# Altium footprint library WePcbLib.PcbLib: 177 footprints (part 3 of 12)
Each footprint in its own frame and in the unit in brackets; x right, y up, seen from the top. Pads: shape width x height; smd on the part's side, far side on the other; paste and mask are expansions set on the pad; w line width, h text height; cw(c..) or ccw(c..) is an arc to the next point about the centre after c.
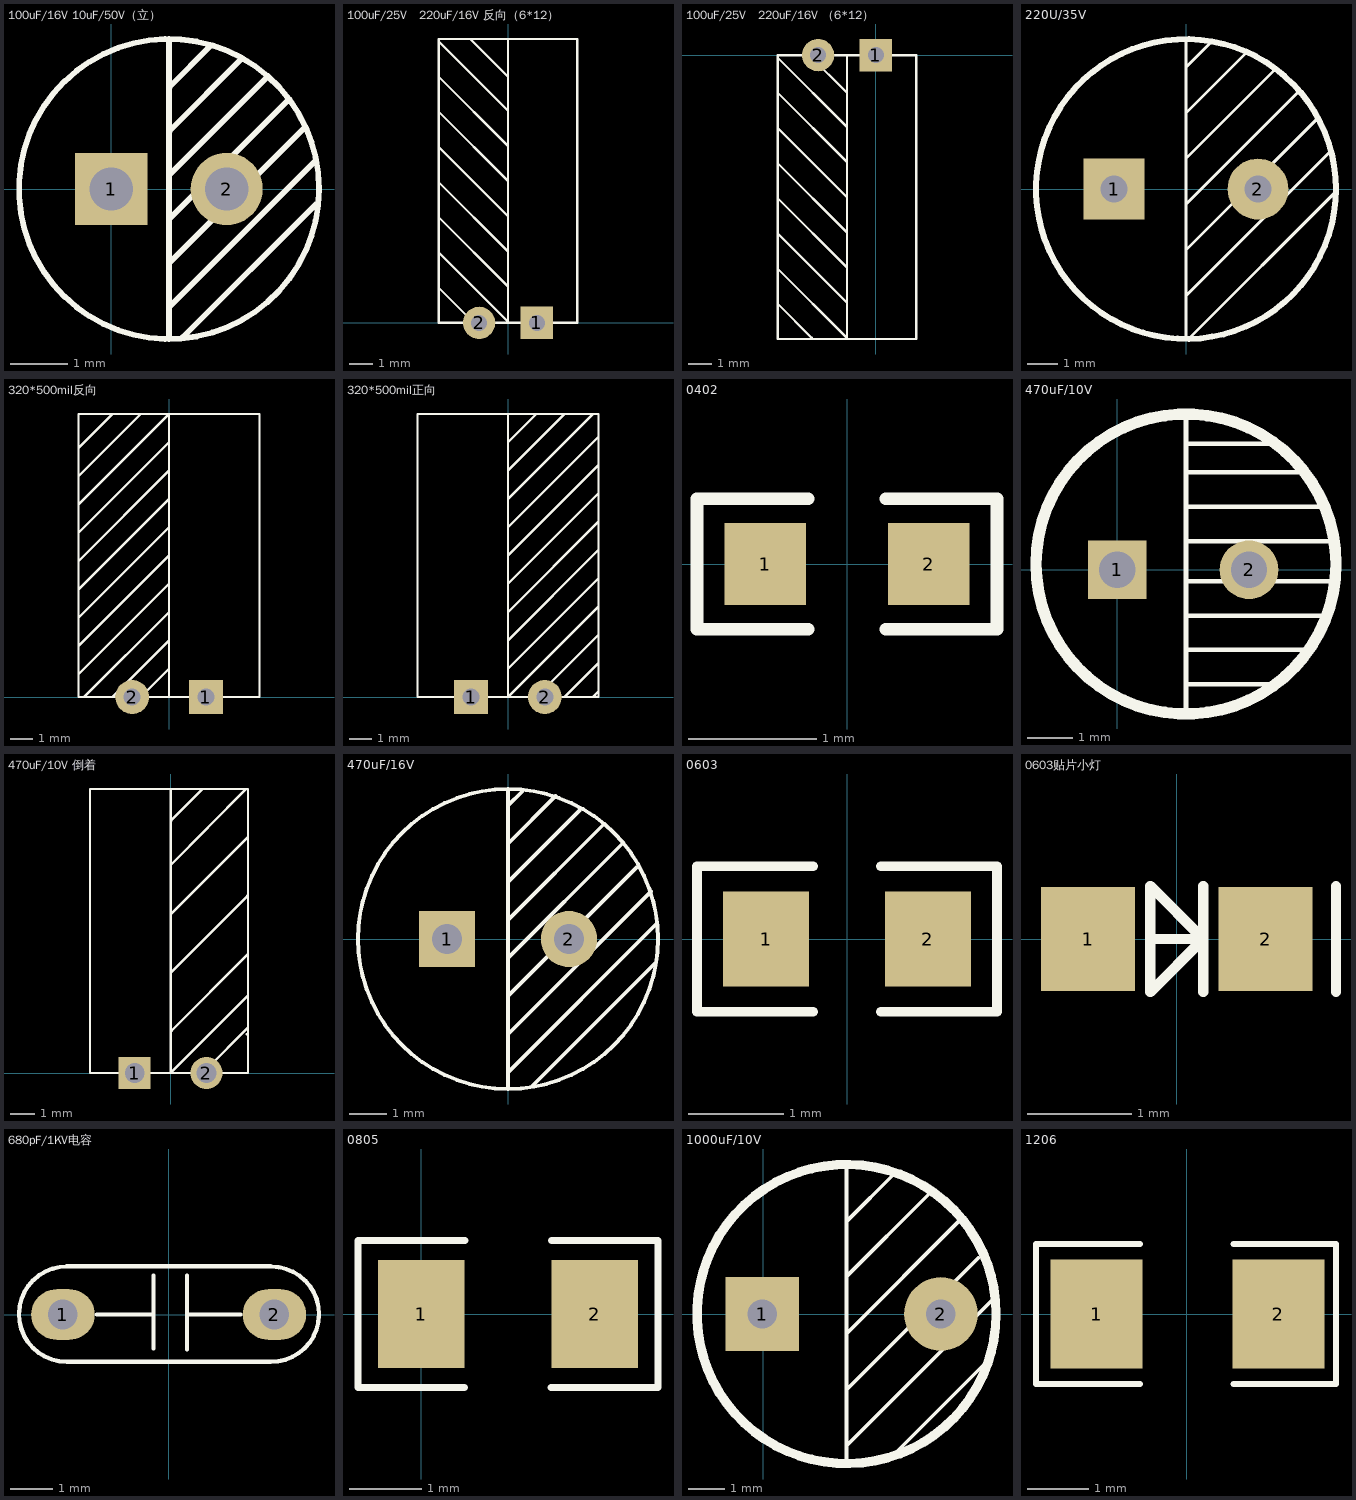
[diagram p2: the footprints below, top view; thin cyan lines are the x and y axes]

## 100uF/16V 10uF/50V（立） [mm]
pads (2):
  rect 1.25x1.25 hole 0.75: 1(0,0)
  round 1.25 hole 0.75: 2(2,0)
Top Overlay:
  circle w0.1: c1,0 r2.6
  lines w0.1: 1,-2.6 1,2.6 ; 1.016,-2.032 3.531,0.483 ; 1.016,-1.27 3.327,1.041 ; 1.016,-0.508 3.048,1.524 ; 1.016,0.254 2.667,1.905 ; 1.016,1.016 2.261,2.261 ; 1.016,1.778 1.714,2.476 ; 1.245,-2.565 3.556,-0.254

## 100uF/25V   220uF/16V 反向（6*12） [mm]
height 4.6
pads (2):
  rect 1.4x1.4 hole 0.7: 1(1.25,0)
  round 1.4 hole 0.7: 2(-1.25,0)
Top Overlay:
  lines w0.1: -3,1.524 -1.524,0.048 -1.524,0 ; -3,3.048 0,0.048 0,0 0,12.3 ; -3,4.572 0,1.572 0,1.524 ; -3,6.096 0,3.096 0,3.048 0,3 ; -3,7.62 0,4.62 0,4.572 0,4.524 ; -3,9.144 0,6.144 0,6.096 0,6.048 ; -3,10.668 0,7.668 0,7.62 0,7.572 ; -3,12.192 0,9.192 0,9.144 0,9.096 ; -1.632,12.3 0,10.668 ; -0.025,12.3 0.022,12.3 ; 1.245,12.3 1.266,12.3 ; 1.295,12.3 1.416,12.3 ; 1.524,0 3,0 ; 3,6.096 3,6.169 ; 0,10.668 0,10.645 0,10.668 ; 3,0 3,12.3 -3,12.3 -3,0 3,0 ; 3,10.668 3,10.716 3,10.668

## 100uF/25V   220uF/16V （6*12） [mm]
pads (2):
  rect 1.4x1.4 hole 0.7: 1(0,0)
  round 1.4 hole 0.7: 2(-2.5,0)
Top Overlay:
  lines w0.1: -4.25,-10.776 -2.774,-12.252 -2.774,-12.3 ; -4.25,-9.252 -1.25,-12.252 -1.25,-12.3 -1.25,0 ; -4.25,-7.728 -1.25,-10.728 -1.25,-10.776 ; -4.25,-6.204 -1.25,-9.204 -1.25,-9.252 -1.25,-9.3 ; -4.25,-4.68 -1.25,-7.68 -1.25,-7.728 -1.25,-7.776 ; -4.25,-3.156 -1.25,-6.156 -1.25,-6.204 -1.25,-6.252 ; -4.25,-1.632 -1.25,-4.632 -1.25,-4.68 -1.25,-4.728 ; -4.25,-0.108 -1.25,-3.108 -1.25,-3.156 -1.25,-3.204 ; -2.882,0 -1.25,-1.632 ; -1.275,0 -1.228,0 ; -0.005,0 0.016,0 ; 0.045,0 0.166,0 ; 0.274,-12.3 1.75,-12.3 ; 1.75,-6.204 1.75,-6.131 ; -1.25,-1.632 -1.25,-1.655 -1.25,-1.632 ; 1.75,-12.3 -4.25,-12.3 -4.25,0 1.75,0 1.75,-12.3 ; 1.75,-1.632 1.75,-1.584 1.75,-1.632

## 220U/35V [mil]
height 181.1
pads (2):
  rect 80x80 hole 35: 1(-94.49,0)
  round 80 hole 35: 2(94.49,0)
Top Overlay:
  circle w7.87: c0,0 r196.85
  lines w3.94: 0,-194.3 0,197 ; 0,-140 190,50 ; 0,-80 171,91 ; 0,-20 147.5,127.5 ; 0,40 117.5,157.5 ; 0,100 80,180 ; 0,160 34,194 ; 4.5,-195.5 194,-6

## 320*500mil反向 [mil] "1000uF*10V/470uF*10V/220uF*25V/220uF*35V"
pads (2):
  rect 60x60 hole 30: 1(65,0)
  round 60 hole 30: 2(-65,0)
Top Overlay:
  lines w3.94: -160,40 0,200 ; -160,90 0,250 ; -160,140 0,300 ; -160,190 0,350 ; -160,240 0,400 ; -160,290 0,450 ; -160,340 0,500 0,0 ; -160,390 -50,500 ; -160,440 -100,500 -110,500 ; -150,0 0,150 ; -100,0 0,100 ; -50,0 0,50 ; -160,0 160,0 160,500 -160,500 -160,0

## 320*500mil正向 [mil] "1000uF*10V/470uF*10V/220uF*25V/220uF*35V"
pads (2):
  rect 60x60 hole 30: 1(-65,0)
  round 60 hole 30: 2(65,0)
Top Overlay:
  lines w3.94: 0,50 160,210 ; 0,100 160,260 ; 0,150 160,310 ; 0,200 160,360 ; 0,250 160,410 ; 0,300 160,460 ; 0,350 150,500 ; 0,400 100,500 ; 0,450 50,500 ; 0,500 0,0 160,160 ; 45,0 50,0 160,110 ; 100,0 160,60 ; 150,0 160,10 ; -160,0 -160,500 160,500 160,0 -160,0

## 0402 [mm]
pads (2):
  rect 0.635x0.635 smd: 1(-0.635,0) 2(0.635,0)
Top Overlay:
  lines w0.1: -0.305,-0.508 -1.168,-0.508 -1.168,0.508 -0.305,0.508 ; 0.305,-0.508 1.168,-0.508 1.168,0.508 ; 1.168,0.508 0.305,0.508 1.168,0.508

## 470uF/10V [mm]
pads (2):
  rect 1.3x1.3 hole 0.8: 1(0,0)
  round 1.3 hole 0.8: 2(2.921,0)
Top Overlay:
  circle w0.254: c1.524,0.127 r3.324
  lines w0.1: 1.524,-3.175 1.524,3.429 ; 1.524,-2.54 3.556,-2.54 ; 1.524,-1.778 4.191,-1.778 ; 1.524,-1.016 4.572,-1.016 ; 1.524,-0.254 4.826,-0.254 ; 1.524,0.635 4.826,0.635 ; 1.524,1.397 4.572,1.397 ; 1.524,2.159 4.064,2.159 ; 1.524,2.794 3.429,2.794

## 470uF/10V 倒着 [mm]
pads (2):
  rect 1.3x1.3 hole 0.8: 1(-1.46,0)
  round 1.3 hole 0.8: 2(1.46,0)
Top Overlay:
  lines w0.1: 0,4.05 0,4.075 3.125,7.2 ; 0,11.525 0,0 3.125,3.125 ; 0.012,6.463 3.15,9.6 ; 0.025,10.25 0.025,10.275 1.3,11.55 ; 0.05,1.725 3.137,4.812 ; 1.475,-0.05 1.475,0.175 3.125,1.825 ; -3.275,0 3.15,0 3.15,11.55 -3.275,11.55 -3.275,0 ; 0,8.45 3.075,11.55 0,8.45 ; 3.1,1.575 3.1,1.575

## 470uF/16V [mm]
pads (2):
  rect 1.5x1.5 hole 0.8: 1(-1.625,0)
  round 1.5 hole 0.8: 2(1.625,0)
Top Overlay:
  circle w0.102: c0,0 r4
  lines w0.102: 0,-3.937 0,3.937 ; 0,-3.556 3.937,0.381 ; 0,-2.54 3.81,1.27 ; 0,-1.524 3.429,1.905 ; 0,-0.508 3.048,2.54 ; 0,0.508 2.54,3.048 ; 0,1.524 1.905,3.429 ; 0,2.54 1.27,3.81 ; 0,3.556 0.381,3.937 ; 0.635,-3.937 3.937,-0.635

## 0603 [mm]
height 4.6
pads (2):
  rect 0.9x1 smd: 1(-0.85,0) 2(0.85,0)
Top Overlay:
  lines w0.1: -0.356,-0.762 -1.575,-0.762 -1.575,0.762 -0.356,0.762 ; 0.356,-0.762 1.575,-0.762 1.575,0.762 0.356,0.762

## 0603贴片小灯 [mm]
pads (2):
  rect 0.9x1 smd: 1(-0.85,0) 2(0.85,0)
Top Overlay:
  lines w0.1: -0.254,0 0.254,0 ; 0.254,-0.508 0.254,0.508 ; 1.524,-0.508 1.524,0.508 ; 0.254,0 -0.254,-0.508 -0.254,0.508 0.254,0

## 680pF/1KV电容 [mm]
pads (2):
  oval 1.5x1.2 hole 0.7: 1(-2.5,0) 2(2.5,0)
Top Overlay:
  lines w0.1: -1.7,0 -0.375,0 ; -0.36,-0.8 -0.36,0.925 ; 0.435,-0.825 0.435,0.925 ; 0.45,0 1.7,0
  lines w0.102: -2.413,1.143 2.413,1.143 ; -2.398,1.134 ccw(c-2.413,0.008) -2.413,-1.118 2.413,-1.118 ccw(c2.428,0.008) 2.428,1.134

## 0805 [mm]
pads (2):
  rect 1.2x1.5 smd: 1(0,0) 2(2.4,0)
Top Overlay:
  lines w0.1: 0.596,-1.016 -0.875,-1.016 -0.875,1.016 0.601,1.016 ; 1.797,-1.016 3.275,-1.016 3.275,1.016 1.801,1.016

## 1000uF/10V [mm]
pads (2):
  rect 2x2 hole 0.8: 1(-0.025,0)
  round 2 hole 0.8: 2(4.826,0)
Top Overlay:
  circle w0.254: c2.261,0 r4.064
  lines w0.1: 2.261,-4.064 2.261,4.064 ; 2.261,0.508 2.261,1.016 4.483,3.238 ; 2.261,1.905 2.261,2.515 ; 2.286,-3.556 6.35,0.508 ; 2.286,-2.032 5.842,1.524 ; 2.286,-0.508 5.334,2.54 ; 2.286,2.54 3.556,3.81 ; 3.556,-3.81 6.096,-1.27 ; 6.325,-0.254 6.325,0

## 1206 [mil]
height 181.1
pads (2):
  rect 59.06x70 smd: 1(-58,0) 2(59,0)
Top Overlay:
  lines w3.94: -30,-45 -97,-45 -97,45 -30,45 ; 30,-45 96,-45 96,45 30,45